# Altium schematic symbol library SCH - DRIVER - LED - TI TPS61022RWU.SchLib: 1 symbol
Pins are listed as number, name and electrical type; pins without a type are passive.

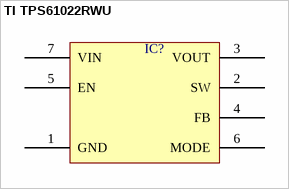
[diagram p0: symbol TI TPS61022RWU]

## TI TPS61022RWU
designator IC?  (value not drawn)
pins: 1 GND, 2 SW, 3 VOUT, 4 FB, 5 EN, 6 MODE, 7 VIN